# EAGLE library part MIC5891 (library mic5891)
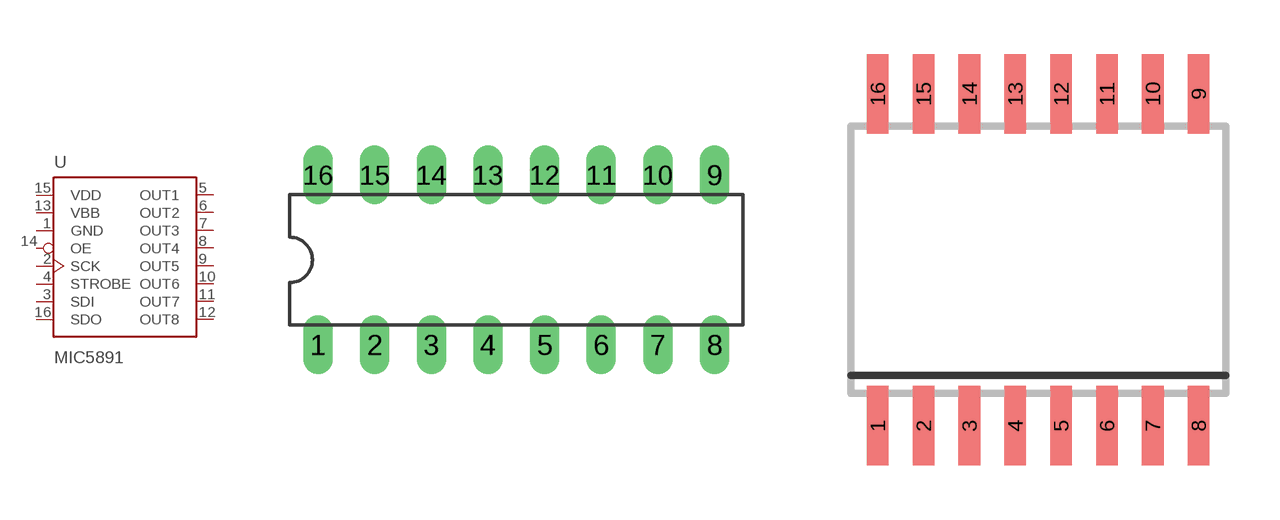
[diagram p0: symbol with the pads of DIL16; footprints DIL16, SO-16DW]

Designator prefix U

## MIC5891N  [DIL16]
1  GND  pwr
2  SCK  in
3  SDI  in
4  STROBE  in
5  OUT1  out
6  OUT2  out
7  OUT3  out
8  OUT4  out
9  OUT5  out
10  OUT6  out
11  OUT7  out
12  OUT8  out
13  VBB  pwr
14  OE  in
15  VDD  pwr
16  SDO  out

## MIC5891WM  [SO-16DW]
Pads as for DIL16

## Footprint DIL16 (pad centres in mm)
Dual In Line Package
drill 0.813 long: 1 -8.89,-3.81; 2 -6.35,-3.81; 3 -3.81,-3.81; 4 -1.27,-3.81; 5 1.27,-3.81; 6 3.81,-3.81; 7 6.35,-3.81; 8 8.89,-3.81; 9 8.89,3.81; 10 6.35,3.81; 11 3.81,3.81; 12 1.27,3.81; 13 -1.27,3.81; 14 -3.81,3.81; 15 -6.35,3.81; 16 -8.89,3.81

## Footprint SO-16DW (pad centres in mm)
Small Outline Integrated Circuit wide
smd 0.6 x 2.2: 1 -4.445,-4.6; 2 -3.175,-4.6; 3 -1.905,-4.6; 4 -0.635,-4.6; 5 0.635,-4.6; 6 1.905,-4.6; 7 3.175,-4.6; 8 4.445,-4.6; 9 4.445,4.6; 10 3.175,4.6; 11 1.905,4.6; 12 0.635,4.6; 13 -0.635,4.6; 14 -1.905,4.6; 15 -3.175,4.6; 16 -4.445,4.6